# Altium schematic symbol library MountingHoles.SchLib: 30 symbols
Pins are listed as number, name and electrical type; pins without a type are passive.

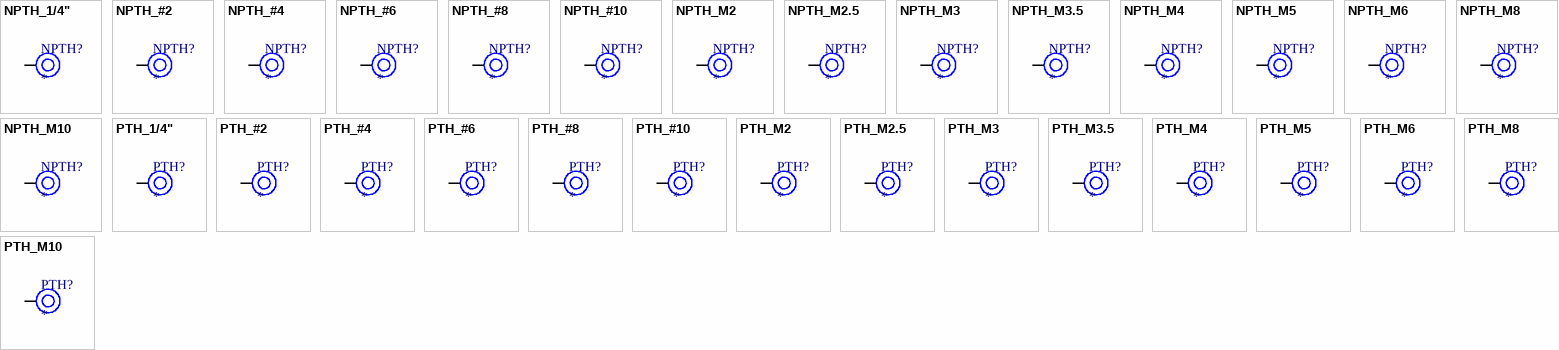
[diagram p0: symbols NPTH_1/4" to PTH_M10]

## NPTH_1/4"
designator NPTH?
Non-Plated Mounting Hole 1/4"
footprint NPTH_1/4" (Non-Plated Mounting Hole 1/4")
pins: 1

## NPTH_#2
designator NPTH?
Non-Plated Mounting Hole #2
footprint NPTH_#2 (Non-Plated Mounting Hole #2)
pins: 1

## NPTH_#4
designator NPTH?
Non-Plated Mounting Hole #4
footprint NPTH_#4 (Non-Plated Mounting Hole #4)
pins: 1

## NPTH_#6
designator NPTH?
Non-Plated Mounting Hole #6
footprint NPTH_#6 (Non-Plated Mounting Hole #6)
pins: 1

## NPTH_#8
designator NPTH?
Non-Plated Mounting Hole #8
footprint NPTH_#8 (Non-Plated Mounting Hole #8)
pins: 1

## NPTH_#10
designator NPTH?
Non-Plated Mounting Hole #10
footprint NPTH_#10 (Non-Plated Mounting Hole #10)
pins: 1

## NPTH_M2
designator NPTH?
Non-Plated Mounting Hole M2
footprint NPTH_M2 (Non-Plated Mounting Hole M2)
pins: 1

## NPTH_M2.5
designator NPTH?
Non-Plated Mounting Hole M2.5
footprint NPTH_M2.5 (Non-Plated Mounting Hole M2.5)
pins: 1

## NPTH_M3
designator NPTH?
Non-Plated Mounting Hole M3
footprint NPTH_M3 (Non-Plated Mounting Hole M3)
pins: 1

## NPTH_M3.5
designator NPTH?
Non-Plated Mounting Hole M3.5
footprint NPTH_M3.5 (Non-Plated Mounting Hole M3.5)
pins: 1

## NPTH_M4
designator NPTH?
Non-Plated Mounting Hole M4
footprint NPTH_M4 (Non-Plated Mounting Hole M4)
pins: 1

## NPTH_M5
designator NPTH?
Non-Plated Mounting Hole M5
footprint NPTH_M5 (Non-Plated Mounting Hole M5)
pins: 1

## NPTH_M6
designator NPTH?
Non-Plated Mounting Hole M6
footprint NPTH_M6 (Non-Plated Mounting Hole M6)
pins: 1

## NPTH_M8
designator NPTH?
Non-Plated Mounting Hole M8
footprint NPTH_M8 (Non-Plated Mounting Hole M8)
pins: 1

## NPTH_M10
designator NPTH?
Non-Plated Mounting Hole M10
footprint NPTH_M10 (Non-Plated Mounting Hole M10)
pins: 1

## PTH_1/4"
designator PTH?
Plated Mounting Hole 1/4"
footprint PTH_1/4" (Plated Mounting Hole 1/4")
pins: 1

## PTH_#2
designator PTH?
Plated Mounting Hole #2
footprint PTH_#2 (Plated Mounting Hole #2)
pins: 1

## PTH_#4
designator PTH?
Plated Mounting Hole #4
footprint PTH_#4 (Plated Mounting Hole #4)
pins: 1

## PTH_#6
designator PTH?
Plated Mounting Hole #6
footprint PTH_#6 (Plated Mounting Hole #6)
pins: 1

## PTH_#8
designator PTH?
Plated Mounting Hole #8
footprint PTH_M8 (Plated Mounting Hole M8)
pins: 1

## PTH_#10
designator PTH?
Non-Plated Mounting Hole #10
footprint PTH_#10 (Plated Mounting Hole #10)
pins: 1

## PTH_M2
designator PTH?
Plated Mounting Hole M2
footprint PTH_M2 (Plated Mounting Hole M2)
pins: 1

## PTH_M2.5
designator PTH?
Plated Mounting Hole M2.5
footprint PTH_M2.5 (Plated Mounting Hole M2.5)
pins: 1

## PTH_M3
designator PTH?
Plated Mounting Hole M3
footprint PTH_M3 (Plated Mounting Hole M3)
pins: 1

## PTH_M3.5
designator PTH?
Plated Mounting Hole M3.5
footprint PTH_M3.5 (Plated Mounting Hole M3.5)
pins: 1

## PTH_M4
designator PTH?
Plated Mounting Hole M4
footprint PTH_M4 (Plated Mounting Hole M4)
pins: 1

## PTH_M5
designator PTH?
Plated Mounting Hole M5
footprint PTH_M5 (Plated Mounting Hole M5)
pins: 1

## PTH_M6
designator PTH?
Plated Mounting Hole M6
footprint PTH_M6 (Plated Mounting Hole M6)
pins: 1

## PTH_M8
designator PTH?
Plated Mounting Hole M8
footprint PTH_M8 (Plated Mounting Hole M8)
pins: 1

## PTH_M10
designator PTH?
Plated Mounting Hole M10
footprint PTH_M10 (Plated Mounting Hole M10)
pins: 1